# Altium schematic symbol library CX3225FB24000C0FZZH1.SchLib: 1 symbol
Pins are listed as number, name and electrical type; pins without a type are passive.

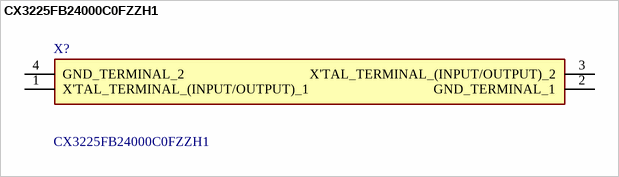
[diagram p0: symbol CX3225FB24000C0FZZH1]

## CX3225FB24000C0FZZH1
designator X?
Crystals 3.2x2.5mm 24MHz 7pF; Manufacturer_Name: Kyocera AVX; Geometry.Height: 0.8mm; Manufacturer_Part_Number: CX3225FB24000C0FZZH1; Mouser Part Number: *; Mouser Price/Stock: *; Arrow Part Number: *; Arrow Price/Stock: *; Datasheet Link: https://ele.kyocera.com/assets/products/crystal-device/specification/CX3225FB_7pF.pdf
footprint CX3225FB24000C0FZZH1
pins: 1 X'TAL_TERMINAL_(INPUT/OUTPUT)_1, 2 GND_TERMINAL_1, 3 X'TAL_TERMINAL_(INPUT/OUTPUT)_2, 4 GND_TERMINAL_2